# Altium footprint library SL_Other.PcbLib: 72 footprints (part 2 of 5)
Each footprint in its own frame and in the unit in brackets; x right, y up, seen from the top. Pads: shape width x height; smd on the part's side, far side on the other; paste and mask are expansions set on the pad; w line width, h text height; cw(c..) or ccw(c..) is an arc to the next point about the centre after c.
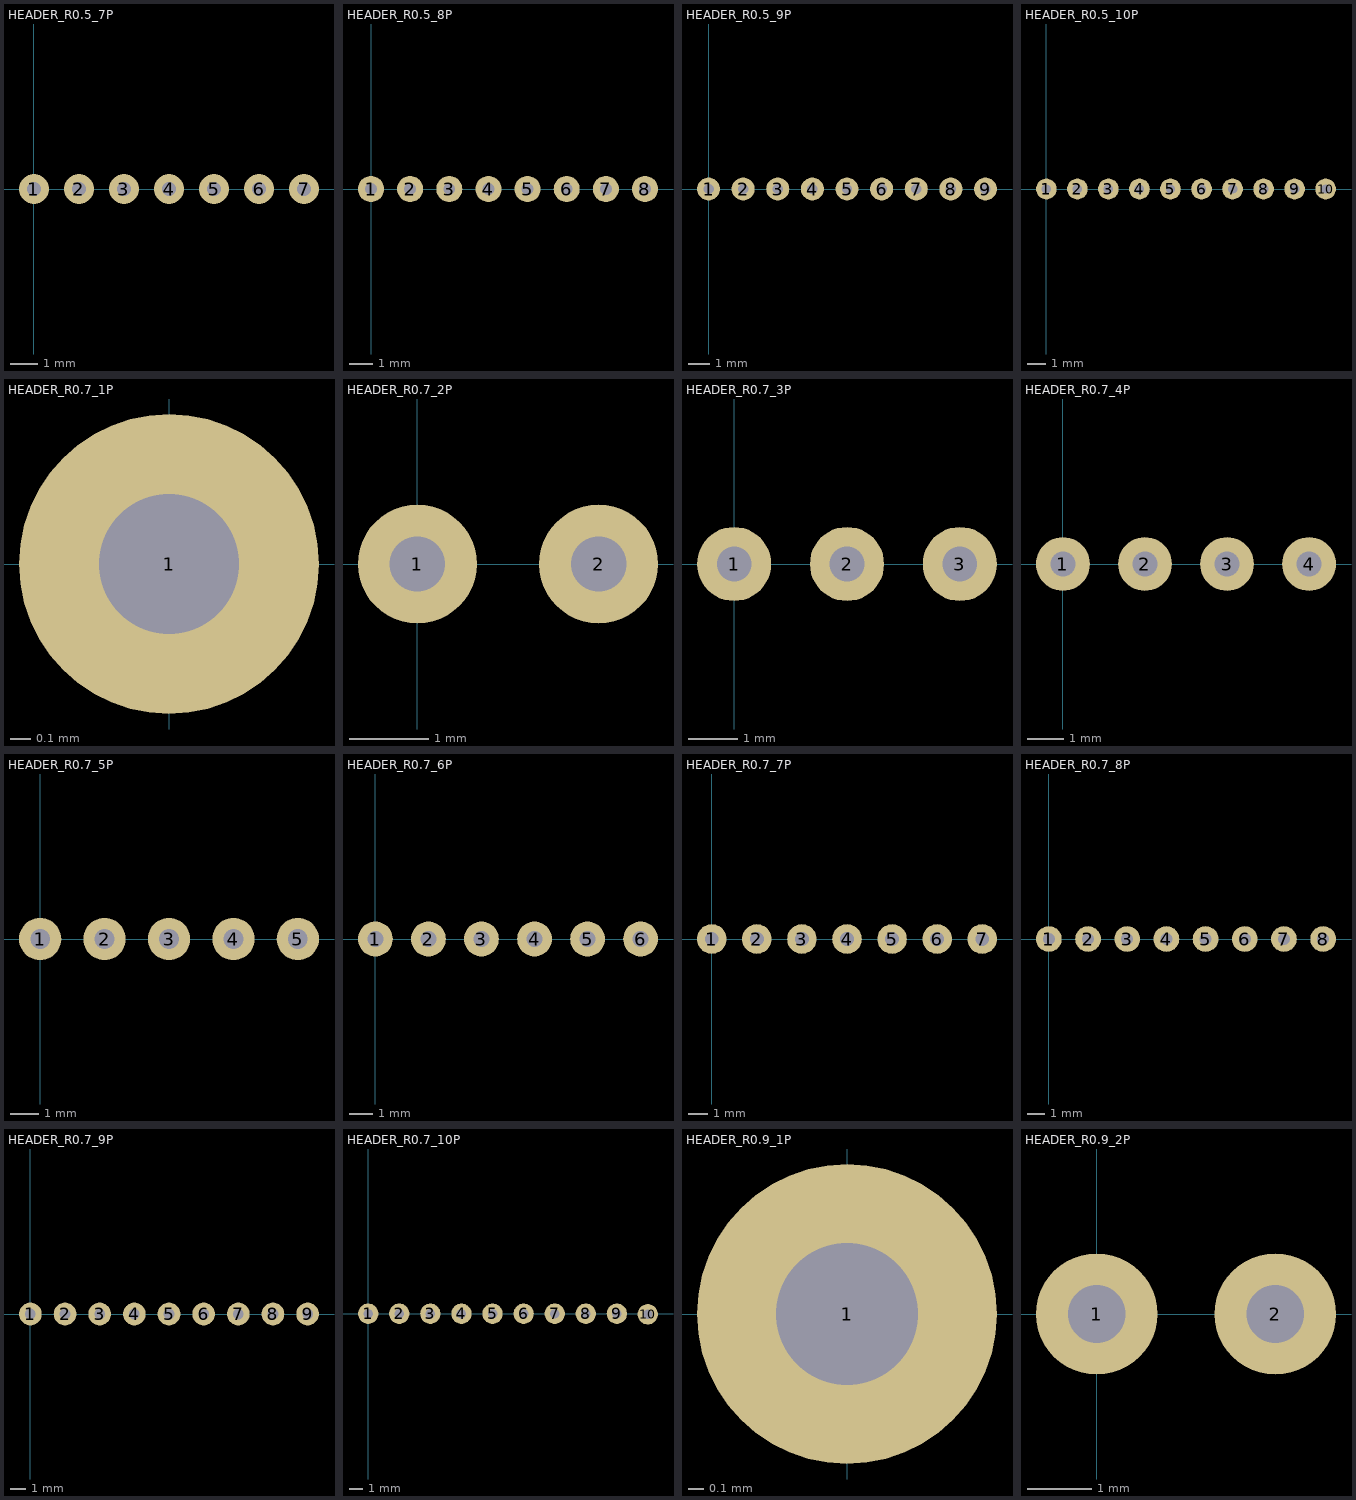
[diagram p1: the footprints below, top view; thin cyan lines are the x and y axes]

## HEADER_R0.5_7P [mm]
pads (7):
  round 1.1 hole 0.5: 1(0,0) 2(1.651,0) 3(3.302,0) 4(4.953,0) 5(6.604,0) 6(8.255,0) 7(9.906,0)

## HEADER_R0.5_8P [mm]
pads (8):
  round 1.1 hole 0.5: 1(0,0) 2(1.651,0) 3(3.302,0) 4(4.953,0) 5(6.604,0) 6(8.255,0) 7(9.906,0) 8(11.557,0)

## HEADER_R0.5_9P [mm]
pads (9):
  round 1.1 hole 0.5: 1(0,0) 2(1.651,0) 3(3.302,0) 4(4.953,0) 5(6.604,0) 6(8.255,0) 7(9.906,0) 8(11.557,0) 9(13.208,0)

## HEADER_R0.5_10P [mm]
pads (10):
  round 1.1 hole 0.5: 1(0,0) 2(1.651,0) 3(3.302,0) 4(4.953,0) 5(6.604,0) 6(8.255,0) 7(9.906,0) 8(11.557,0) 9(13.208,0) 10(14.859,0)

## HEADER_R0.7_1P [mm]
pads (1):
  round 1.5 hole 0.7: 1(0,0)

## HEADER_R0.7_2P [mm]
pads (2):
  round 1.5 hole 0.7: 1(0,0) 2(2.286,0)

## HEADER_R0.7_3P [mm]
pads (3):
  round 1.5 hole 0.7: 1(0,0) 2(2.286,0) 3(4.572,0)

## HEADER_R0.7_4P [mm]
pads (4):
  round 1.5 hole 0.7: 1(0,0) 2(2.286,0) 3(4.572,0) 4(6.858,0)

## HEADER_R0.7_5P [mm]
pads (5):
  round 1.5 hole 0.7: 1(0,0) 2(2.286,0) 3(4.572,0) 4(6.858,0) 5(9.144,0)

## HEADER_R0.7_6P [mm]
pads (6):
  round 1.5 hole 0.7: 1(0,0) 2(2.286,0) 3(4.572,0) 4(6.858,0) 5(9.144,0) 6(11.43,0)

## HEADER_R0.7_7P [mm]
pads (7):
  round 1.5 hole 0.7: 1(0,0) 2(2.286,0) 3(4.572,0) 4(6.858,0) 5(9.144,0) 6(11.43,0) 7(13.716,0)

## HEADER_R0.7_8P [mm]
pads (8):
  round 1.5 hole 0.7: 1(0,0) 2(2.286,0) 3(4.572,0) 4(6.858,0) 5(9.144,0) 6(11.43,0) 7(13.716,0) 8(16.002,0)

## HEADER_R0.7_9P [mm]
pads (9):
  round 1.5 hole 0.7: 1(0,0) 2(2.286,0) 3(4.572,0) 4(6.858,0) 5(9.144,0) 6(11.43,0) 7(13.716,0) 8(16.002,0) 9(18.288,0)

## HEADER_R0.7_10P [mm]
pads (10):
  round 1.5 hole 0.7: 1(0,0) 2(2.286,0) 3(4.572,0) 4(6.858,0) 5(9.144,0) 6(11.43,0) 7(13.716,0) 8(16.002,0) 9(18.288,0) 10(20.561,-0.052)

## HEADER_R0.9_1P [mm]
pads (1):
  round 1.9 hole 0.9: 1(0,0)

## HEADER_R0.9_2P [mm]
pads (2):
  round 1.9 hole 0.9: 1(0,0) 2(2.794,0)